# EAGLE library part 1X6_HEADER (library ModernDevice)
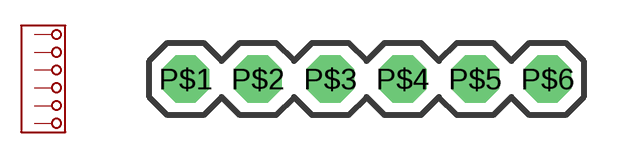
[diagram p1: symbol with the pads of 1X6_HEADER; footprint 1X6_HEADER]

Designator prefix -

## 1X6_HEADER  [1X6_HEADER]
P$1  P$1
P$2  P$2
P$3  P$3
P$4  P$4
P$5  P$5
P$6  P$6

## Footprint 1X6_HEADER (pad centres in mm)
drill 1.016 pad 1.676 octagon: P$1 -6.35,0; P$2 -3.81,0; P$3 -1.27,0; P$4 1.27,0; P$5 3.81,0; P$6 6.35,0